# Altium footprint library SamacSys.PcbLib: 18 footprints (part 2 of 2)
Each footprint in its own frame and in the unit in brackets; x right, y up, seen from the top. Pads: shape width x height; smd on the part's side, far side on the other; paste and mask are expansions set on the pad; w line width, h text height; cw(c..) or ccw(c..) is an arc to the next point about the centre after c.
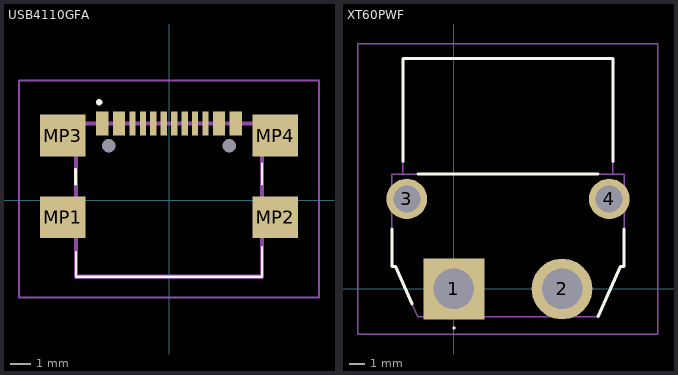
[diagram p1: the footprints below, top view; thin cyan lines are the x and y axes]

## USB4110GFA [mm]
pads (22):
  rect 0.3x1.15 smd: A1(-3.35,3.678) A4(-2.55,3.678) A5(-1.25,3.678) A6(-0.25,3.678) A7(0.25,3.678) A8(1.25,3.678) A9(2.55,3.678) A12(3.35,3.678) B1(3.05,3.678) B4(2.25,3.678) B5(1.75,3.678) B6(0.75,3.678) B7(-0.75,3.678) B8(-1.75,3.678) B9(-2.25,3.678) B12(-3.05,3.678)
  round 0.325 hole 0.65 unplated: MH1(-2.89,2.603) MH2(2.89,2.603)
  rect 2.18x2 smd: MP1(-5.11,-0.827) MP2(5.11,-0.827) MP3(-5.11,3.103) MP4(5.11,3.103)
Top Overlay:
  lines w0.1: -4.47,-3.677 4.47,-3.677 ; -4.47,-3.677 4.47,-3.677 ; -4.47,-3.677 -4.47,-2.5 -4.47,-3.677 ; 4.47,-3.677 4.47,-2.25 4.47,-3.677 ; -4.5,0.75 -4.47,0.75 -4.47,1.5 -4.5,1.5 -4.5,0.75 ; 4.47,0.75 4.47,1.75 4.47,0.75
  lines w0.2: -3.4,4.7 ccw(c-3.35,4.7) -3.3,4.7 ; -3.4,4.7 cw(c-3.35,4.7) -3.3,4.7 ; -3.4,4.7 ccw(c-3.35,4.7) -3.3,4.7
Mechanical 13:
  lines w0.2: -4.47,-3.677 -4.47,3.673 4.47,3.673 4.47,-3.677 -4.47,-3.677
Mechanical 15:
  lines w0.1: -7.2,-4.677 -7.2,5.75 7.2,5.75 7.2,-4.677 -7.2,-4.677
3D body "USB4110-GF-A.stp": height 3.26, standoff -0.63, extent -5.65,-3.68 5.65,4.02

## XT60PWF [mm]
pads (4):
  rect 4.05x4.05 hole 2.7: 1(0,0)
  round 4.05 hole 2.7: 2(7.2,0)
  round 2.7 hole 1.8: 3(-3.15,6) 4(10.35,6)
Top Overlay:
  lines w0.1: 0,-2.65 ccw(c0,-2.6) 0,-2.55 ccw(c0,-2.6) 0,-2.65
  lines w0.2: -4.15,4 -4.15,1.5 -3.9,1.5 -2.8,-1 ; -3.4,8.5 -3.4,15.35 10.6,15.35 10.6,8.5 ; -2.4,7.65 9.6,7.65 ; 9.6,-1.85 11.1,1.5 11.35,1.5 11.35,4
Mechanical 13:
  lines w0.1: -3.4,7.65 -3.4,15.35 10.6,15.35 10.6,7.65 ; -4.15,1.5 -3.9,1.5 -2.4,-1.85 4.6,-1.85 9.6,-1.85 11.1,1.5 11.35,1.5 11.35,3.5 11.35,5 11.35,7.65 -4.15,7.65 -4.15,1.5
Mechanical 15:
  lines w0.1: -6.4,-3.025 13.6,-3.025 13.6,16.35 -6.4,16.35 -6.4,-3.025
3D body "XT60PW-F.stp": height 8.37, standoff -2.58, extent -4.15,-1.94 11.35,15.26